# Altium footprint library MOLEX-528921095.PcbLib: 1 footprints
Each footprint in its own frame and in the unit in brackets; x right, y up, seen from the top. Pads: shape width x height; smd on the part's side, far side on the other; paste and mask are expansions set on the pad; w line width, h text height; cw(c..) or ccw(c..) is an arc to the next point about the centre after c.
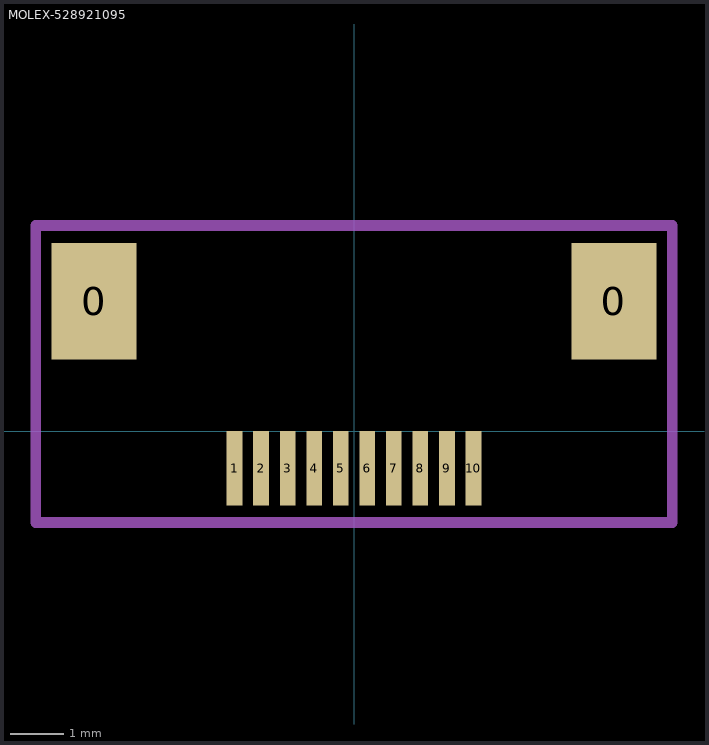
[diagram p0: the footprint, top view; thin cyan lines are the x and y axes]

## MOLEX-528921095 [mm] "CONN FPC 10POS 0.5MM"
height 2.54
pads (12):
  rect 1.6x2.2 smd: 0(-4.9,2.45) 0(4.9,2.45)
  rect 0.3x1.4 smd: 1(-2.25,-0.7) 2(-1.75,-0.7) 3(-1.25,-0.7) 4(-0.75,-0.7) 5(-0.25,-0.7) 6(0.25,-0.7) 7(0.75,-0.7) 8(1.25,-0.7) 9(1.75,-0.7) 10(2.25,-0.7)
Top Courtyard:
  lines w0.2: -6,-1.725 -6,3.875 6,3.875 6,-1.725 -6,-1.725